# Altium footprint library ELN2_LaboAntenna_Bornet_Cesalli_Lehtinen.PcbLib: 1 footprints
Each footprint in its own frame and in the unit in brackets; x right, y up, seen from the top. Pads: shape width x height; smd on the part's side, far side on the other; paste and mask are expansions set on the pad; w line width, h text height; cw(c..) or ccw(c..) is an arc to the next point about the centre after c.
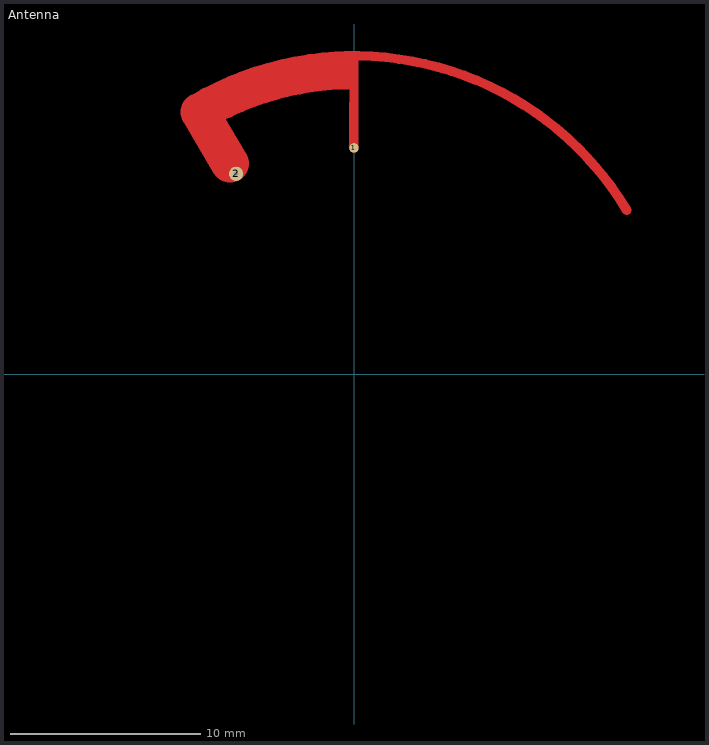
[diagram p0: the footprint, top view; thin cyan lines are the x and y axes]

## Antenna [mm]
pads (2):
  round 0.5 smd: 1(0,11.9)
  round 0.75 hole 0.25: 2(-6.207,10.537)
Top Layer:
  rectangle: -0.975,14.975 0,15.4
  lines w0.5: -1.168,16.709 cw(c0,0) 14.358,8.627 ; 0,11.9 0,16.75
  lines w2: -6.522,11.072 -8.121,13.786 cw(c0,0) -0.899,15.975